# Altium footprint library PCB库2.PcbLib: 108 footprints (part 4 of 7)
Each footprint in its own frame and in the unit in brackets; x right, y up, seen from the top. Pads: shape width x height; smd on the part's side, far side on the other; paste and mask are expansions set on the pad; w line width, h text height; cw(c..) or ccw(c..) is an arc to the next point about the centre after c.
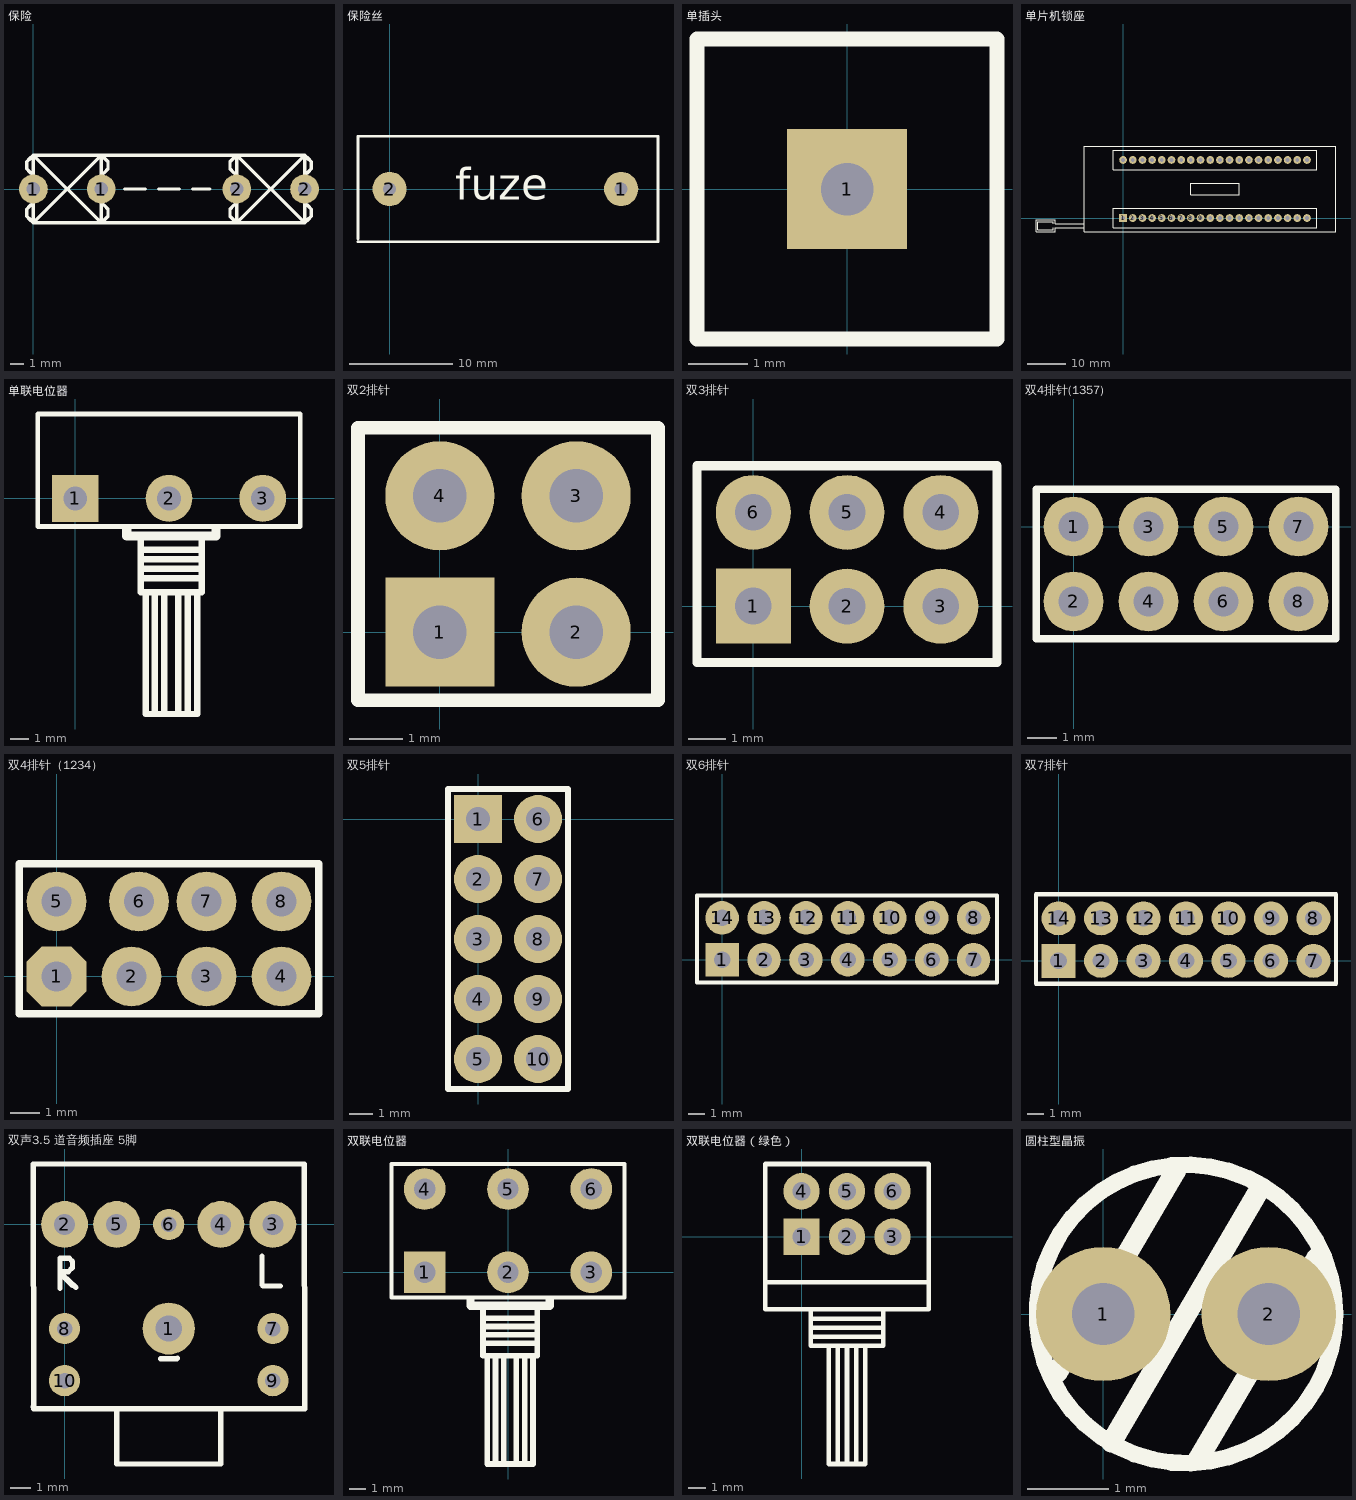
[diagram p3: the footprints below, top view; thin cyan lines are the x and y axes]

## 保险 [mil]
pads (4):
  round 85 hole 40: 1(0,0) 1(200,0) 2(600,0) 2(800,0)
Top Overlay:
  lines w10: 0,-40 -10,-50 -20,-60 -20,-70 -20,-80 -10,-90 0,-100 ; 0,40 -10,50 -20,60 -20,70 -20,80 -10,90 0,100 ; 200,-40 210,-50 220,-60 220,-70 220,-80 210,-90 200,-100 ; 200,40 210,50 220,60 220,70 220,80 210,90 200,100 ; 270,0 330,0 ; 370,0 430,0 ; 470,0 520,0 ; 600,-40 590,-50 580,-60 580,-70 580,-80 590,-90 600,-100 ; 600,40 590,50 580,60 580,70 580,80 590,90 600,100 ; 800,-40 810,-50 820,-60 820,-70 820,-80 810,-90 800,-100 ; 800,40 810,50 820,60 820,70 820,80 810,90 800,100 ; 0,-100 200,100 ; 0,-100 200,-100 ; 0,-100 0,100 ; 0,100 200,-100 ; 0,100 200,100 ; 200,-100 200,0 200,100 ; 200,-100 600,-100 ; 200,100 600,100 ; 600,-100 800,100 ; 600,-100 800,-100 ; 600,-100 600,100 ; 600,100 800,-100 ; 600,100 800,100 ; 800,-100 800,100

## 保险丝 [mil]
pads (2):
  round 130 hole 50: 1(880,0) 2(0,0)
Top Overlay:
  lines w10: -120,-200 1020,-200 1020,200 -120,200 -120,-190
  text "fuze" at 250,-40 h120

## 单插头 [mil]
pads (1):
  rect 80x80 hole 35: 1(0,0)
Top Overlay:
  lines w10: -100,-100 100,-100 100,100 -100,100 -100,-100

## 单片机锁座 [mil]
pads (40):
  rect 80x80 hole 39.37: 1(0,0)
  round 80 hole 39: 2(100,0) 3(200,0) 4(300,0) 5(400,0) 6(500,0) 7(600,0) 8(700,0) 9(800,0) 10(900,0) 11(1000,0) 12(1100,0) 13(1200,0) 14(1300,0) 15(1400,0) 16(1500,0) 17(1600,0) 18(1700,0) 19(1800,0) 20(1900,0) 21(1900,600) 22(1800,600) 23(1700,600) 24(1600,600) 25(1500,600) 26(1400,600) 27(1300,600) 28(1200,600) 29(1100,600) 30(1000,600) 31(900,600) 32(800,600) 33(700,600) 34(600,600) 35(500,600) 36(400,600) 37(300,600) 38(200,600) 39(100,600) 40(0,600)
Top Overlay:
  lines w10: -720,-100 -720,-120 -880,-120 -880,-40 -720,-40 -720,-60 ; -400,-100 -700,-100 -700,-140 -900,-140 -900,-20 -700,-20 -700,-60 -400,-60 ; -400,-140 -400,740 2200,740 2200,-140 -400,-140 ; -100,-100 -100,100 2000,100 2000,-100 -100,-100 ; -100,500 -100,700 2000,700 2000,500 -100,500 ; 700,240 700,360 1200,360 1200,240 700,240

## 单联电位器 [mm]
pads (3):
  rect 2.54x2.54 hole 1.3: 1(0,0)
  round 2.54 hole 1.3: 2(5.08,0) 3(10.16,0)
Top Overlay:
  lines w0.254: -2.032,-1.524 -2.032,4.572 12.192,4.572 12.192,-1.524 -2.032,-1.524
  lines w0.35: 3.556,-4.318 6.858,-4.318 6.858,-3.81 3.556,-3.81 3.556,-3.302 6.858,-3.302 6.858,-2.794 3.556,-2.794 ; 3.556,-2.032 3.556,-5.08 6.858,-5.08 6.858,-2.032 ; 3.81,-5.08 3.81,-11.684 6.604,-11.684 6.604,-5.08 ; 4.318,-11.684 4.318,-5.08 ; 4.826,-11.684 4.826,-5.08 ; 5.588,-11.684 5.588,-5.08 ; 6.096,-11.684 6.096,-5.08 ; 6.858,-3.048 6.858,-2.54
  lines w0.5: 2.794,-1.727 2.794,-2.032 7.62,-2.032 7.62,-1.727

## 双2排针 [mil]
pads (4):
  rect 80x80 hole 39.37: 1(0,0)
  round 80 hole 39.37: 2(100,0) 3(100,100) 4(0,100)
Top Overlay:
  lines w10: -60,-50 -60,150 160,150 160,-50 -60,-50

## 双3排针 [mil]
pads (6):
  rect 80x80 hole 39.37: 1(0,0)
  round 80 hole 39: 2(100,0) 3(200,0) 4(200,100) 5(100,100) 6(0,100)
Top Overlay:
  lines w10: -60,-60 -60,150 260,150 260,-60 -60,-60

## 双4排针(1357) [mil]
pads (8):
  round 80 hole 40: 1(0,0) 2(0,-100) 3(100,0) 4(100,-100) 5(200,0) 6(200,-100) 7(300,0) 8(300,-100)
Top Overlay:
  lines w10: -50,-150 350,-150 350,50 -50,50 -50,-150

## 双4排针（1234） [mil]
pads (8):
  oct 80x80 hole 40: 1(0,0)
  round 80 hole 40: 2(100,0) 3(200,0) 4(300,0) 5(0,100) 6(110,100) 7(200,100) 8(300,100)
Top Overlay:
  lines w10: -50,-50 -50,150 350,150 350,-50 -50,-50

## 双5排针 [mil]
pads (10):
  rect 80x80 hole 40: 1(0,0)
  round 80 hole 40: 2(0,-100) 3(0,-200) 4(0,-300) 5(0,-400) 6(100,0) 7(100,-100) 8(100,-200) 9(100,-300) 10(100,-400)
Top Overlay:
  lines w10: -50,-450 150,-450 150,50 -50,50 -50,-450

## 双6排针 [mil]
pads (14):
  rect 80x80 hole 39.37: 1(0,0)
  round 80 hole 39: 2(100,0) 3(200,0) 4(300,0) 5(400,0) 6(500,0) 7(600,0) 8(600,100) 9(500,100) 10(400,100) 11(300,100) 12(200,100) 13(100,100) 14(0,100)
Top Overlay:
  lines w10: -60,-54 -60,153 656,153 656,-54 -60,-54

## 双7排针 [mil]
pads (14):
  rect 80x80 hole 39.37: 1(0,0)
  round 80 hole 39: 2(100,0) 3(200,0) 4(300,0) 5(400,0) 6(500,0) 7(600,0) 8(600,100) 9(500,100) 10(400,100) 11(300,100) 12(200,100) 13(100,100) 14(0,100)
Top Overlay:
  lines w10: -53,-54 653,-54 653,157 -53,157 -53,-54

## 双声3.5 道音频插座 5脚 [mil]
pads (10):
  round 100 hole 50: 1(200,-200)
  round 90 hole 40: 2(0,0) 3(400,0) 4(300,0) 5(100,0)
  round 60 hole 30: 6(200,0) 7(400,-200) 8(0,-200) 9(400,-300) 10(0,-300)
Top Overlay:
  lines w10: -60,-350 -59,-354 ; -9,-123 -9,-65 ; -9,-97 -5,-97 ; 15,-117 -5,-97 ; 22,-121 -4,-97 -5,-97 ; 100,-360 100,-460 300,-460 300,-360 ; 184,-258 216,-258 217,-257 ; 379,-61 379,-116 381,-118 414,-118 ; -59,-354 461,-354 460,116 -60,116 -59,-354 ; -9,-65 -9,-90 -8,-91 7,-91 15,-83 15,-71 9,-65 -9,-65

## 双联电位器 [mm]
pads (6):
  rect 2.54x2.54 hole 1.3: 1(-5.08,0)
  round 2.54 hole 1.3: 2(0,0) 3(5.08,0) 4(-5.08,5.08) 5(0,5.08) 6(5.08,5.08)
Top Overlay:
  lines w0.254: -7.112,-1.524 -7.112,6.604 7.112,6.604 7.112,-1.524 -7.112,-1.524
  lines w0.35: -1.524,-4.318 1.778,-4.318 1.778,-3.81 -1.524,-3.81 -1.524,-3.302 1.778,-3.302 1.778,-2.794 -1.524,-2.794 ; -1.524,-2.032 -1.524,-5.08 1.778,-5.08 1.778,-2.032 ; -1.27,-5.08 -1.27,-11.684 1.524,-11.684 1.524,-5.08 ; -0.762,-11.684 -0.762,-5.08 ; -0.254,-11.684 -0.254,-5.08 ; 0.508,-11.684 0.508,-5.08 ; 1.016,-11.684 1.016,-5.08 ; 1.778,-3.048 1.778,-2.54
  lines w0.5: -2.286,-1.727 -2.286,-2.032 2.54,-2.032 2.54,-1.727

## 双联电位器（绿色） [mil]
pads (6):
  rect 80x80 hole 40: 1(0,0)
  round 80 hole 40: 2(100,0) 3(200,0) 4(0,100) 5(100,100) 6(200,100)
Top Overlay:
  lines w10: -80,-100 280,-100 ; 20,-220 180,-220 ; 20,-200 180,-200 ; 20,-180 180,-180 ; 20,-160 20,-240 180,-240 180,-160 ; 60,-240 60,-500 140,-500 140,-240 ; 80,-500 80,-240 ; 100,-500 100,-240 ; 120,-500 120,-240 ; -80,-160 -80,160 280,160 280,0 280,-160 -80,-160

## 圆柱型晶振 [mil]
pads (2):
  round 65 hole 30: 1(0,0) 2(80,0)
Top Overlay:
  circle w8: c40,0 r72.11
  lines w10: -22,-28 35,69 ; 4,-62 76,61 ; 46,-70 103,27